# EAGLE library part AT24C256BN-SH-B (library Deegou_IC)
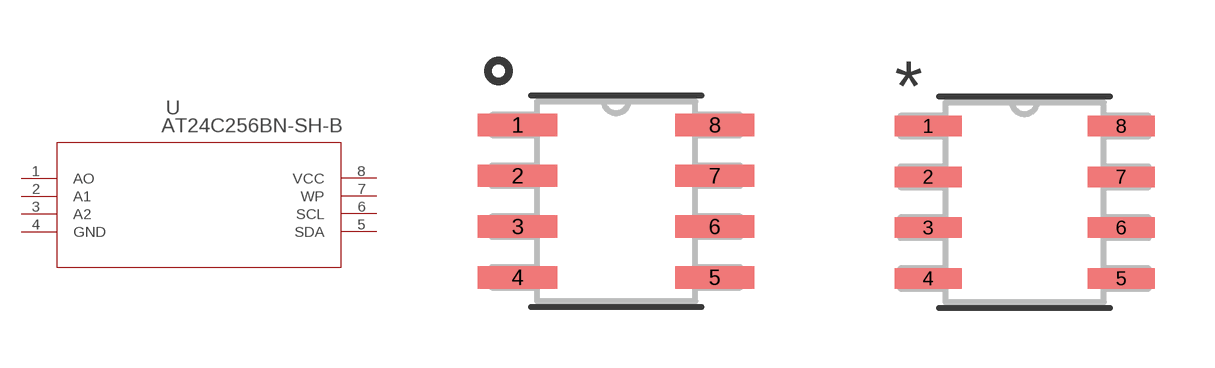
[diagram p49: symbol with the pads of 8S1; footprints 8S1, 8S1-L]

Designator prefix U

## AT24C256BN-SH-B (MANUFACTURER_PART_NUMBER: AT24C256BNSHB; VENDOR: Atmel)  [8S1]
1  AO  in
2  A1  in
3  A2  in
4  GND  pwr
5  SDA  in
6  SCL  in
7  WP  in
8  VCC  pwr

## AT24C256BN-SH-B8S1-L (MANUFACTURER_PART_NUMBER: AT24C256BNSHB; VENDOR: Atmel)  [8S1-L]
Pads as for 8S1

## AT24C256BN-SH-B8S1-M (MANUFACTURER_PART_NUMBER: AT24C256BNSHB; VENDOR: Atmel)  [8S1-M]
Pads as for 8S1

## Footprint 8S1 (pad centres in mm)
smd 1.981 x 0.559: 1 -2.464,1.905; 2 -2.464,0.635; 3 -2.464,-0.635; 4 -2.464,-1.905; 5 2.464,-1.905; 6 2.464,-0.635; 7 2.464,0.635; 8 2.464,1.905

## Footprint 8S1-L (pad centres in mm)
smd 1.676 x 0.508: 1 -2.413,1.905; 2 -2.413,0.635; 3 -2.413,-0.635; 4 -2.413,-1.905; 5 2.413,-1.905; 6 2.413,-0.635; 7 2.413,0.635; 8 2.413,1.905

## Footprint 8S1-M (pad centres in mm)
smd 2.286 x 0.61: 1 -2.515,1.905; 2 -2.515,0.635; 3 -2.515,-0.635; 4 -2.515,-1.905; 5 2.515,-1.905; 6 2.515,-0.635; 7 2.515,0.635; 8 2.515,1.905